# Altium footprint library UNCLEAR.PcbLib: 52 footprints (part 2 of 4)
Each footprint in its own frame and in the unit in brackets; x right, y up, seen from the top. Pads: shape width x height; smd on the part's side, far side on the other; paste and mask are expansions set on the pad; w line width, h text height; cw(c..) or ccw(c..) is an arc to the next point about the centre after c.
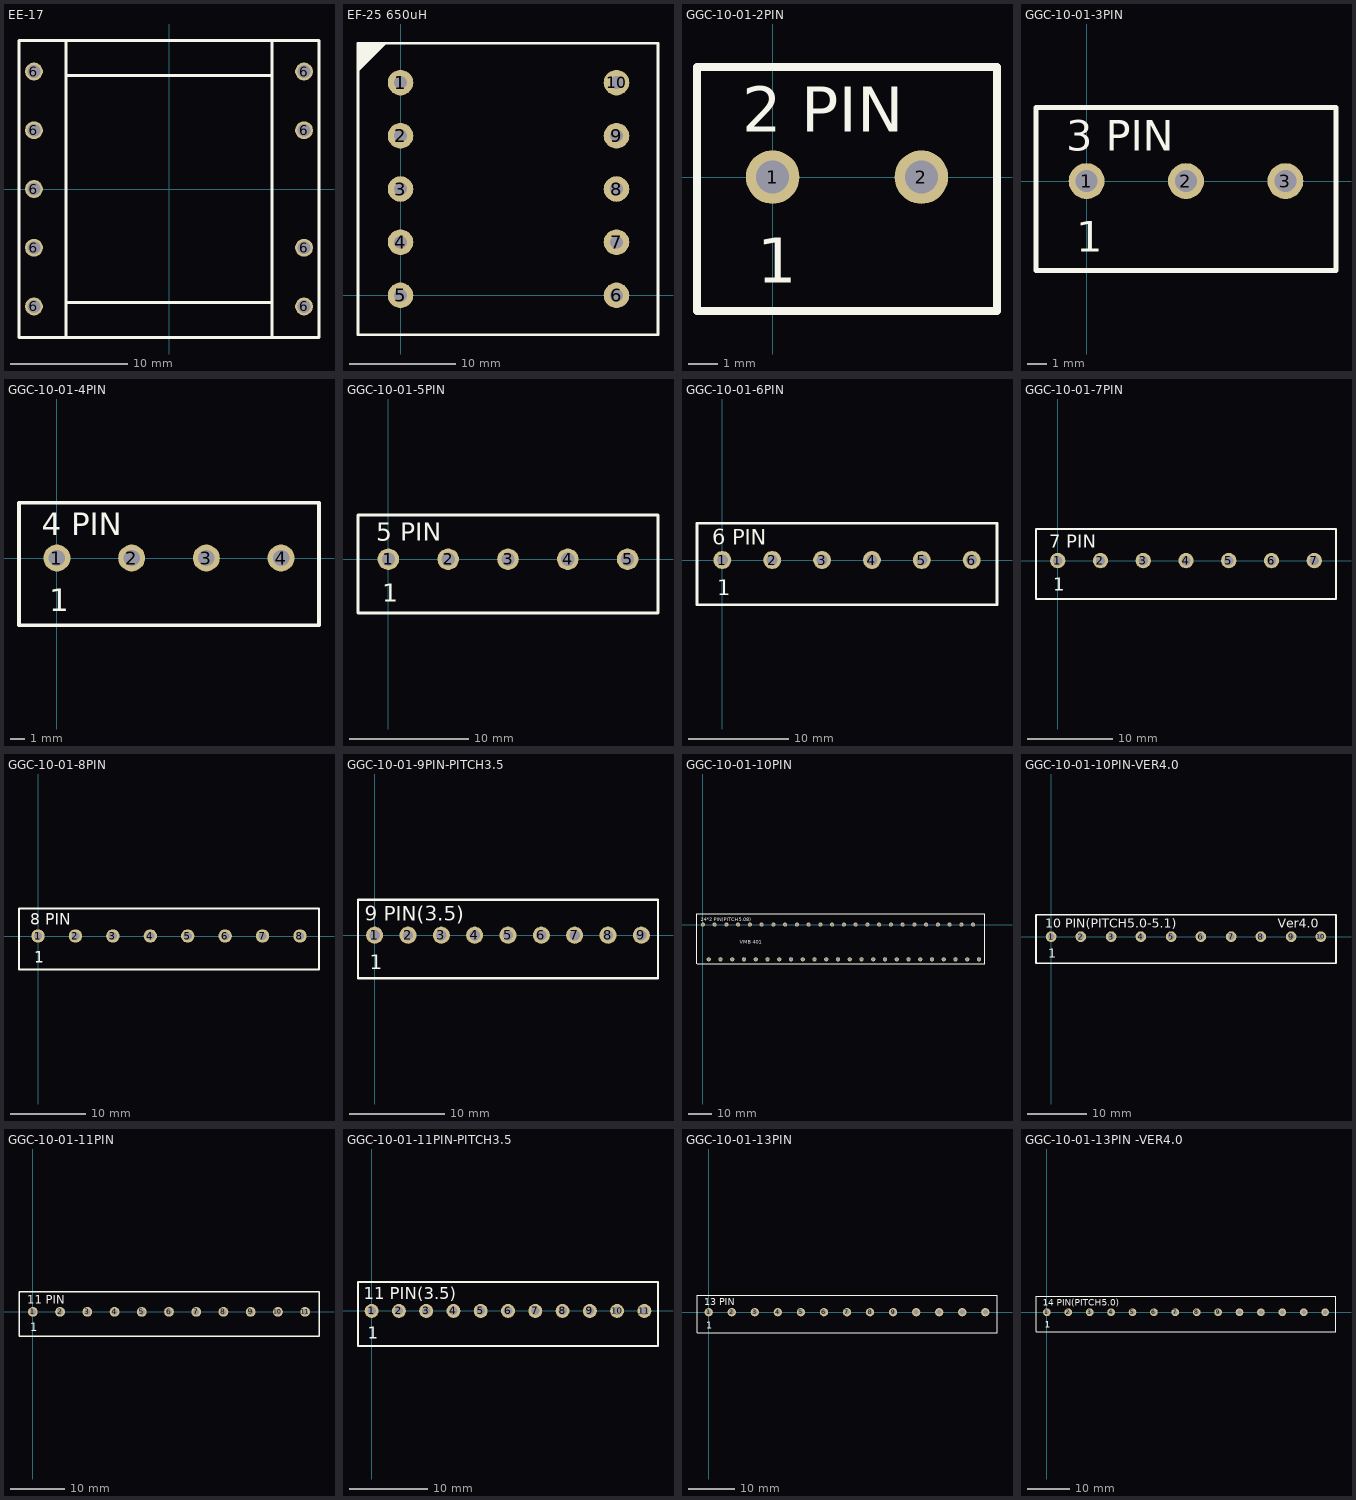
[diagram p1: the footprints below, top view; thin cyan lines are the x and y axes]

## EE-17 [mm]
height 13.85
pads (9):
  round 1.524 hole 1.1: 6(-11.5,-10) 6(-11.5,-5) 6(-11.5,0) 6(-11.5,5) 6(-11.5,10) 6(11.5,-10) 6(11.5,-5) 6(11.5,5) 6(11.5,10)
Top Overlay:
  lines w0.254: -8.77,-12.66 -8.77,12.57 ; -8.76,9.66 8.76,9.66 ; -8.65,-9.66 8.77,-9.66 ; 8.77,-12.61 8.77,12.61 ; -12.77,-12.66 12.77,-12.66 12.77,12.66 -12.77,12.66 -12.77,-12.66

## EF-25 650uH [mm]
height 19
pads (10):
  round 2.4 hole 1.2: 1(0,20) 2(0,15) 3(0,10) 4(0,5) 5(0,0) 6(20.3,0) 7(20.3,5) 8(20.3,10) 9(20.3,15) 10(20.3,20)
Top Overlay:
  lines w0.25: -4,21.15 -1.45,23.7 ; -4,23.38 -3.73,23.65 ; -3.99,21.9 -2.275,23.615 -2.275,23.65 ; -3.99,23.07 -3.41,23.65 ; -3.99,23.29 -3.63,23.65 ; -3.97,21.46 -1.8,23.63 ; -3.97,22.9 -3.22,23.65 ; -3.95,21.7 -2.106,23.544 -2.106,23.65 ; -3.95,22.52 -2.97,23.5 ; -3.94,22.33 -2.62,23.65 ; -3.93,22.75 -3.03,23.65 ; -3.84,22.28 -2.52,23.6
  lines w0.254: -4,-3.7 24.2,-3.7 24.2,23.7 -4,23.7 -4,-3.7

## GGC-10-01-2PIN [mm]
pads (2):
  round 1.8 hole 1.1: 1(-0.008,0) 2(4.992,0)
Top Overlay:
  lines w0.254: -2.548,-4.5 7.532,-4.5 7.532,3.7 -2.548,3.7 -2.548,-4.5
  text "1" at -0.516,-3.556 h1.52
  text "2 PIN" at -1.024,1.524 h1.52

## GGC-10-01-3PIN [mm]
pads (3):
  round 1.8 hole 1.1: 1(-0.001,-0.001) 2(4.999,-0.001) 3(9.999,-0.001)
Top Overlay:
  lines w0.254: -2.541,-4.501 12.539,-4.501 12.539,3.699 -2.541,3.699 -2.541,-4.501
  text "1" at -0.509,-3.557 h1.52
  text "3 PIN" at -1.017,1.523 h1.52

## GGC-10-01-4PIN [mm]
pads (4):
  round 1.8 hole 1.1: 1(-0.002,0.002) 2(4.998,0.002) 3(9.999,0.002) 4(14.998,0.002)
Top Overlay:
  lines w0.254: -2.542,-4.498 -2.542,3.702 17.538,3.702 17.538,-4.498 -2.542,-4.498
  text "4 PIN" at -1.018,1.526 h1.52
  text "1" at -0.51,-3.554 h1.52

## GGC-10-01-5PIN [mm]
pads (5):
  round 1.8 hole 1.1: 1(-0.001,0) 2(4.999,0) 3(10,0) 4(14.999,0) 5(20,0)
Top Overlay:
  lines w0.254: -2.541,-4.5 -2.541,3.7 22.54,3.7 22.54,-4.5 -2.541,-4.5
  text "5 PIN" at -1.017,1.524 h1.52
  text "1" at -0.509,-3.556 h1.52

## GGC-10-01-6PIN [mm]
pads (6):
  round 1.8 hole 1.1: 1(0,0) 2(5,0) 3(10,0) 4(15,0) 5(20,0) 6(25,0)
Top Overlay:
  lines w0.254: -2.54,-4.5 27.54,-4.5 27.54,3.7 -2.54,3.7 -2.54,-4.5
  text "1" at -0.508,-3.556 h1.52
  text "6 PIN" at -1.016,1.524 h1.52

## GGC-10-01-7PIN [mm]
pads (7):
  round 1.8 hole 1.1: 1(0,0) 2(5,0) 3(10,0) 4(15,0) 5(20,0) 6(25,0) 7(30,0)
Top Overlay:
  lines w0.254: -2.54,-4.5 -2.54,3.7 32.54,3.7 32.54,-4.5 -2.54,-4.5
  text "7 PIN" at -1.016,1.524 h1.52
  text "1" at -0.508,-3.556 h1.52

## GGC-10-01-8PIN [mm]
pads (8):
  round 1.8 hole 1.1: 1(0,0) 2(5,0) 3(10,0) 4(15,0) 5(20,0) 6(25,0) 7(30,0) 8(35,0)
Top Overlay:
  lines w0.254: -2.54,-4.5 37.54,-4.5 37.54,3.7 -2.54,3.7 -2.54,-4.5
  text "1" at -0.508,-3.556 h1.52
  text "8 PIN" at -1.016,1.524 h1.52

## GGC-10-01-9PIN-PITCH3.5 [mm]
pads (9):
  round 1.8 hole 1.1: 1(0,0) 2(3.5,0) 3(7,0) 4(10.5,0) 5(14,0) 6(17.5,0) 7(21,0) 8(24.5,0) 9(28,0)
Top Overlay:
  lines w0.254: -1.75,-4.5 -1.75,3.7 29.75,3.7 29.75,-4.5 -1.75,-4.5
  text "1" at -0.508,-3.556 h1.52
  text "9 PIN(3.5)" at -1.016,1.524 h1.52

## GGC-10-01-10PIN [mm]
pads (48):
  round 1.8 hole 1.1: 1(0,-0.002) 2(5.08,-0.002) 3(10.16,-0.002) 4(15.24,-0.002) 5(20.32,-0.002) 6(25.4,-0.002) 7(30.48,-0.002) 8(35.56,-0.002) 9(40.64,-0.002) 10(45.72,-0.002) 11(50.8,-0.002) 12(55.88,-0.002) 13(60.96,-0.002) 14(66.04,-0.002) 15(71.12,-0.002) 16(76.2,-0.002) 17(81.28,-0.002) 18(86.36,-0.002) 19(91.44,-0.002) 20(96.52,-0.002) 21(101.6,-0.002) 22(106.68,-0.002) 23(111.76,-0.002) 24(116.84,-0.002) 25(119.38,-15.001) 26(114.3,-15.001) 27(109.22,-15.001) 28(104.14,-15.001) 29(99.06,-15.001) 30(93.98,-15.001) 31(88.9,-15.001) 32(83.82,-15.001) 33(78.74,-15.001) 34(73.66,-15.001) 35(68.58,-15.001) 36(63.5,-15.001) 37(58.42,-15.001) 38(53.34,-15.001) 39(48.26,-15.001) 40(43.18,-15.001) 41(38.1,-15.001) 42(33.02,-15.001) 43(27.94,-15.001) 44(22.86,-15.001) 45(17.78,-15.001) 46(12.7,-15.001) 47(7.62,-15.001) 48(2.54,-15.001)
Top Overlay:
  lines w0.254: -2.54,-17.001 -2.54,4.598 ; -2.525,-17.001 121.92,-17.001 ; -2.525,4.598 121.92,4.598 ; 121.925,-17.027 121.925,4.573
  text "VMB 401" at 15.975,-8.251 h1.52
  text "24*2 PIN(PITCH5.08)" at -1.016,1.522 h1.52

## GGC-10-01-10PIN-VER4.0 [mm]
pads (10):
  round 1.8 hole 1.1: 1(0,0) 2(5,0) 3(10.1,0) 4(15.1,0) 5(20.2,0) 6(25.2,0) 7(30.3,0) 8(35.3,0) 9(40.4,0) 10(45.4,0)
Top Overlay:
  lines w0.254: -2.54,-4.5 -2.54,3.7 47.94,3.7 47.94,-4.5 -2.54,-4.5
  text "Ver4.0" at 38.1,1.524 h1.52
  text "10 PIN(PITCH5.0-5.1)" at -1.016,1.524 h1.52
  text "1" at -0.508,-3.556 h1.52

## GGC-10-01-11PIN [mm]
pads (11):
  round 1.8 hole 1.1: 1(0,0) 2(5,0) 3(10,0) 4(15,0) 5(20,0) 6(25,0) 7(30,0) 8(35,0) 9(40,0) 10(45,0) 11(50,0)
Top Overlay:
  lines w0.254: -2.54,-4.5 -2.54,3.7 52.54,3.7 52.54,-4.5 -2.54,-4.5
  text "11 PIN" at -1.016,1.524 h1.52
  text "1" at -0.508,-3.556 h1.52

## GGC-10-01-11PIN-PITCH3.5 [mm]
pads (11):
  round 1.8 hole 1.1: 1(0,0) 2(3.5,0) 3(7,0) 4(10.5,0) 5(14,0) 6(17.5,0) 7(21,0) 8(24.5,0) 9(28,0) 10(31.5,0) 11(35,0)
Top Overlay:
  lines w0.254: -1.75,-4.5 -1.75,3.7 36.75,3.7 36.75,-4.5 -1.75,-4.5
  text "1" at -0.508,-3.556 h1.52
  text "11 PIN(3.5)" at -1.016,1.524 h1.52

## GGC-10-01-13PIN [mm]
pads (13):
  round 1.8 hole 1.1: 1(-0.001,-0.001) 2(4.999,-0.001) 3(9.999,-0.001) 4(14.999,-0.001) 5(19.999,-0.001) 6(24.999,-0.001) 7(29.999,-0.001) 8(34.999,-0.001) 9(39.999,-0.001) 10(44.999,-0.001) 11(49.999,-0.001) 12(54.999,-0.001) 13(59.999,-0.001)
Top Overlay:
  lines w0.254: -2.541,-4.501 62.539,-4.501 62.539,3.699 -2.541,3.699 -2.541,-4.501
  text "1" at -0.509,-3.557 h1.52
  text "13 PIN" at -1.017,1.523 h1.52

## GGC-10-01-13PIN -VER4.0 [mm]
pads (14):
  round 1.8 hole 1.1: 1(0,0) 2(5,0) 3(10,0) 4(15,0) 5(20,0) 6(25,0) 7(30,0) 8(35,0) 9(40,0) 10(45,0) 11(50,0) 12(55,0) 13(60,0) 14(65,0)
Top Overlay:
  lines w0.254: -2.54,-4.5 -2.54,3.7 67.54,3.7 67.54,-4.5 -2.54,-4.5
  text "14 PIN(PITCH5.0)" at -1.016,1.524 h1.52
  text "1" at -0.508,-3.556 h1.52